# Altium schematic symbol library MyLibrary.SchLib: 32 symbols
Pins are listed as number, name and electrical type; pins without a type are passive.

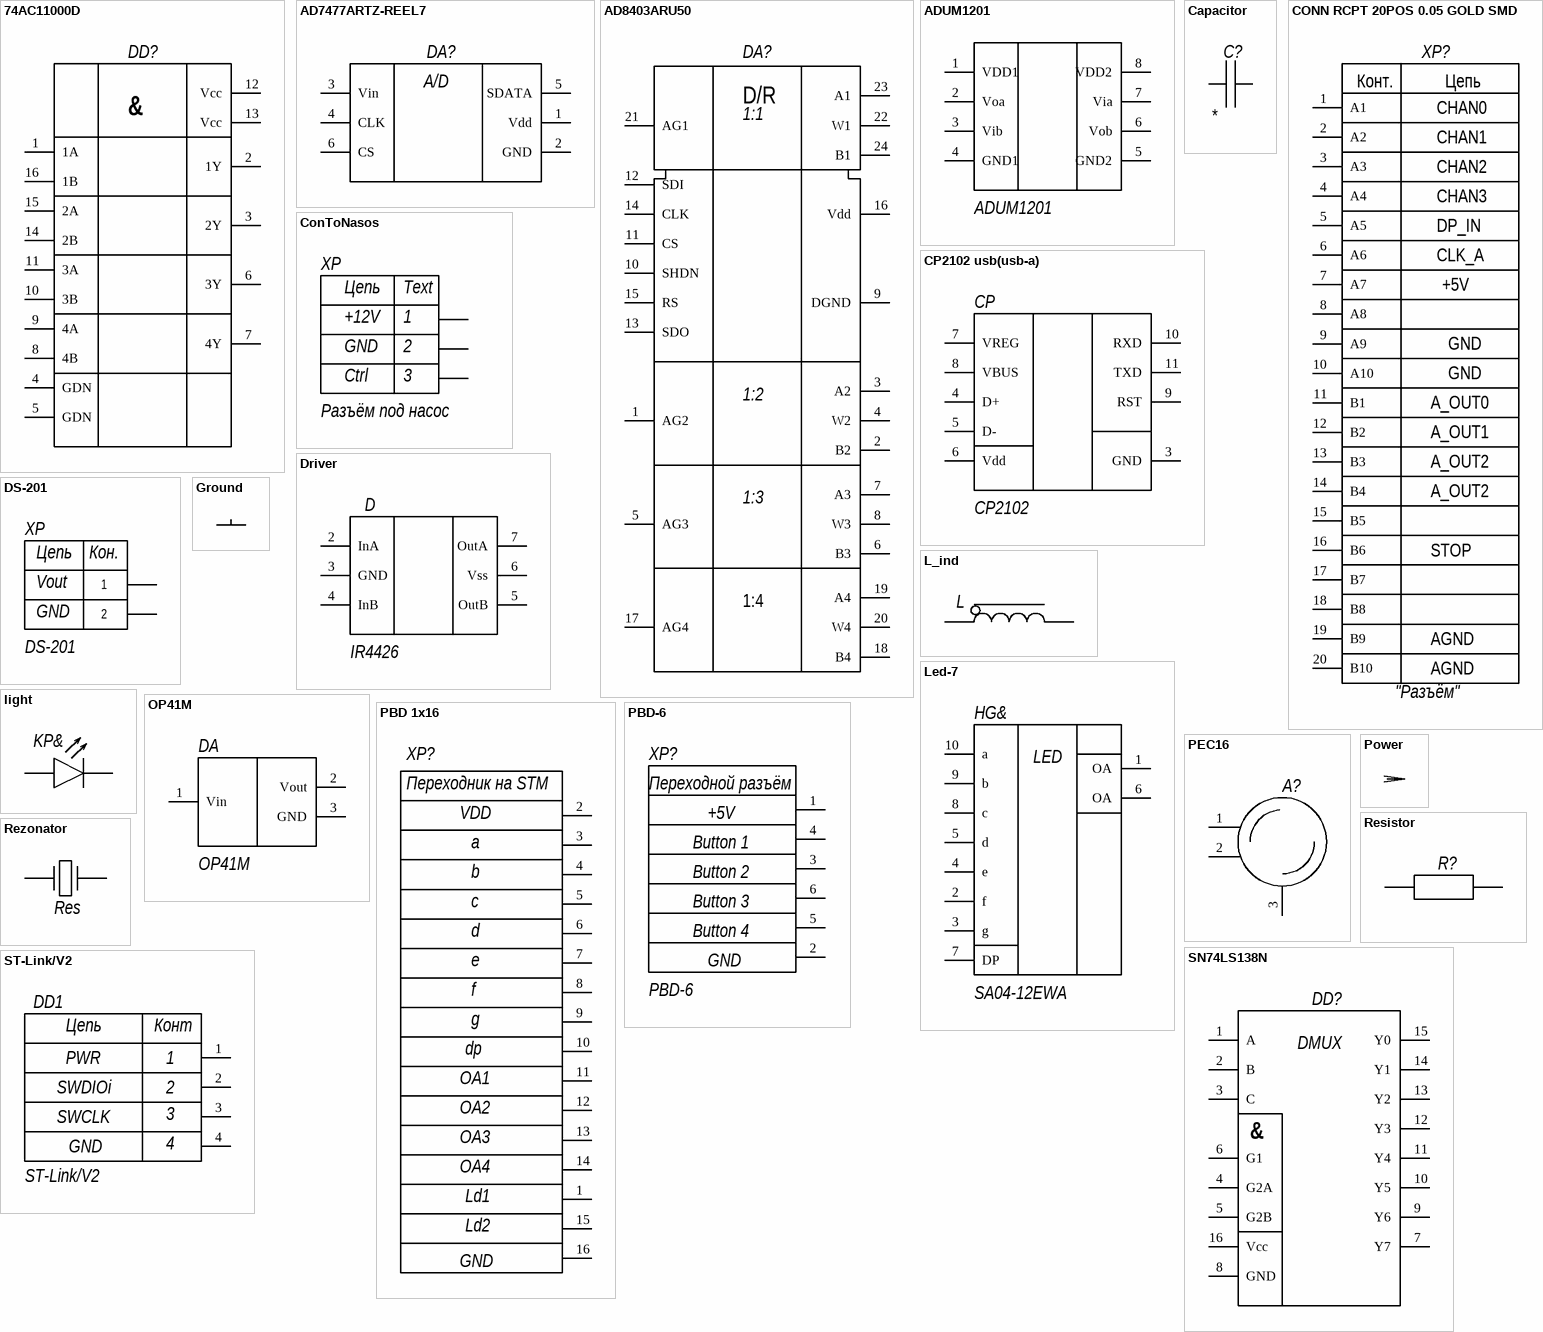
[diagram p0: symbols 74AC11000D to ST-Link/V2]

## 74AC11000D
designator DD?, comment &
DA; Manufacturer: Texas Instruments; Manufacturer Product Number: 74AC11000D; HelpURL: https://www.digikey.com/en/products/detail/texas-instruments/74AC11000D/1687601; Package / Case: 16-SOIC (0.154", 3.90mm Width)
footprint SOIC127P600X175-16N
pins: 1 1A (power), 2 1Y (power), 3 2Y (power), 4 GDN (power), 5 GDN (power), 6 3Y (power), 7 4Y (power), 8 4B (power), 9 4A (power), 10 3B (power), 11 3A (power), 12 Vcc (power), 13 Vcc (power), 14 2B (power), 15 2A (power), 16 1B (power)

## AD7477ARTZ-REEL7
designator DA?, comment A/D
Manufacturer: Analog Devices Inc.; Manufacturer Product Number: AD7477ARTZ-REEL7; Package / Case: SOT-23-6; HelpURL: https://www.digikey.com/en/products/detail/analog-devices-inc/AD7477ARTZ-REEL7/760431
footprint AD7477ART (SOT23, 6-Leads, Body 2,90x2,80mm, Pitch 0,95mm, IPC Medium Density)
pins: 1 Vdd (power), 2 GND (power), 3 Vin (power), 4 CLK (power), 5 SDATA (power), 6 CS (power)

## AD8403ARU50
designator DA?, comment D/R
DA; Manufacturer: Analog Devices Inc.; Manufacturer Product Number: AD8403ARU50; Resistance (Ohms): 50k; HelpURL: https://www.digikey.com/en/products/detail/analog-devices-inc/AD8403ARU50/11534416; Package / Case: 24-TSSOP (0.173", 4.40mm Width)
footprint AD8403ARU50 (TSOP, 24-Leads, Body 7,90x4,50mm, Pitch 0,65mm, IPC Medium Density)
pins: 1 AG2 (power), 2 B2 (power), 3 A2 (power), 4 W2 (power), 5 AG3 (power), 6 B3 (power), 7 A3 (power), 8 W3 (power), 9 DGND (power), 10 SHDN (power), 11 CS (power), 12 SDI (power), 13 SDO (power), 14 CLK (power), 15 RS (power), 16 Vdd (power), 17 AG4 (power), 18 B4 (power), 19 A4 (power), 20 W4 (power), 21 AG1 (power), 22 W1 (power), 23 A1 (power), 24 B1 (power)
text: 1:1; 1:2; 1:3; 1:4

## ADUM1201
designator Izol
pins: 1 VDD1 (power), 2 Voa (power), 3 Vib (power), 4 GND1 (power), 5 GND2 (power), 6 Vob (power), 7 Via (power), 8 VDD2 (power)

## Capacitor
designator C?
Value: *
footprint Cap 0805
pins: 1 (power), 2 (power)

## CONN RCPT 20POS 0.05 GOLD SMD
designator XP?, comment "Разъём"
87024-610TRLF; Manufacturer: Amphenol ICC (FCI); HelpURL: https://www.digikey.com/en/products/detail/amphenol-icc-fci/87024-610TRLF/1528603?s=N4IgTCBcDaIBwHYAMYAsBaAbARiQFQCUAZAMRAF0BfIA; Manufacturer Product Number: 87024-610TRLF
footprint CONN RCPT 20POS 0.05 GOLD SMD - duplicate
pins: 1 A1 (power), 2 A2 (power), 3 A3 (power), 4 A4 (power), 5 A5 (power), 6 A6 (power), 7 A7 (power), 8 A8 (power), 9 A9 (power), 10 A10 (power), 11 B1 (power), 12 B2 (power), 13 B3 (power), 14 B4 (power), 15 B5 (power), 16 B6 (power), 17 B7 (power), 18 B8 (power), 19 B9 (power), 20 B10 (power)
text: Конт.; Цепь; CHAN0; CHAN1; CHAN2; CHAN3; DP_IN; CLK_A; +5V; GND; A_OUT0; A_OUT1; A_OUT2; STOP; AGND

## ConToNasos
designator XP, comment Разъём под насос
pins: 5 (power), 6 (power), 7 (power)
text: Цепь; Text; +12V; 1; GND; 2; Ctrl; 3

## CP2102 usb(usb-a)
designator CP, comment CP2102
pins: 3 GND (power), 4 D+ (power), 5 D- (power), 6 Vdd (power), 7 VREG (power), 8 VBUS (power), 9 RST (power), 10 RXD (power), 11 TXD (power)

## Driver
designator D, comment IR4426
pins: 2 InA (power), 3 GND (power), 4 InB (power), 5 OutB (power), 6 Vss (power), 7 OutA (power)

## DS-201
designator XP
pins: 1 out (power), 2 GND (power)
text: Цепь; Кон.; Vout

## Ground
designator GND  (graphical)
pins: 1 (power)

## L_ind
designator L, comment ind  (value not drawn)
pins: 3 (power), 4 (power)

## Led-7
designator HG&, comment SA04-12EWA
footprint Led-7
pins: 1 OA (power), 2 f (power), 3 g (power), 4 e (power), 5 d (power), 6 OA (power), 7 DP (power), 8 c (power), 9 b (power), 10 a (power)
text: LED

## light
designator KP&  (value not drawn)
footprint KP LD RED
pins: 1 (power), 2 (power)

## OP41M
designator DA
pins: 1 Vin (power), 2 Vout (power), 3 GND (power)

## PBD 1x16
designator XP?  (value not drawn)
footprint PBD - 1x16
pins: 1, 2, 3, 4, 5, 6, 7, 8, 9, 10, 11, 12, 13, 14, 15, 16
text: Переходник на STM; VDD; a; b; c; d; e; f; g; dp; OA1; OA2; OA3; OA4; Ld1; Ld2; GND

## PBD-6
designator XP?
footprint PBD-6
pins: 1 (power), 2 (power), 3 (power), 4 (power), 5 (power), 6 (power)
text: Переходной разъём; +5V; Button 1; Button 2; Button 3; Button 4; GND

## PEC16
designator A?, comment Encoder  (value not drawn)
footprint PEC16 (Encoder)
pins: 1 A (power), 2 B (power), 3 C (power)

## Power
designator Power  (graphical)
pins: 1 (power)

## Resistor
designator R?
HelpURL: *; Manufacture: *
footprint Res 0805
pins: 1 (power), 2 (power)

## Rezonator
designator Res, comment HC-49SM  (value not drawn)
pins: 1 in (power), 2 out (power)

## SN74LS138N
designator DD?, comment DMUX
Manufacturer: Texas Instruments; Manufacturer Product Number: SN74LS138N; HelpURL: https://www.digikey.com/en/products/detail/texas-instruments/SN74LS138N/277285; Package / Case: 16-DIP (0.300", 7.62mm)
footprint DIP794W45P254L1969H508Q16
pins: 1 A (power), 2 B (power), 3 C (power), 4 G2A (power), 5 G2B (power), 6 G1 (power), 7 Y7 (power), 8 GND (power), 9 Y6 (power), 10 Y5 (power), 11 Y4 (power), 12 Y3 (power), 13 Y2 (power), 14 Y1 (power), 15 Y0 (power), 16 Vcc (power)
text: &

## ST-Link/V2
designator DD1
pins: 1 VCC +3.3V (power), 2 SWDIO/JTMS (power), 3 SWDCLK/JTCK (power), 4 GND (power)
text: Цепь; Конт; PWR; SWDIOi; SWCLK

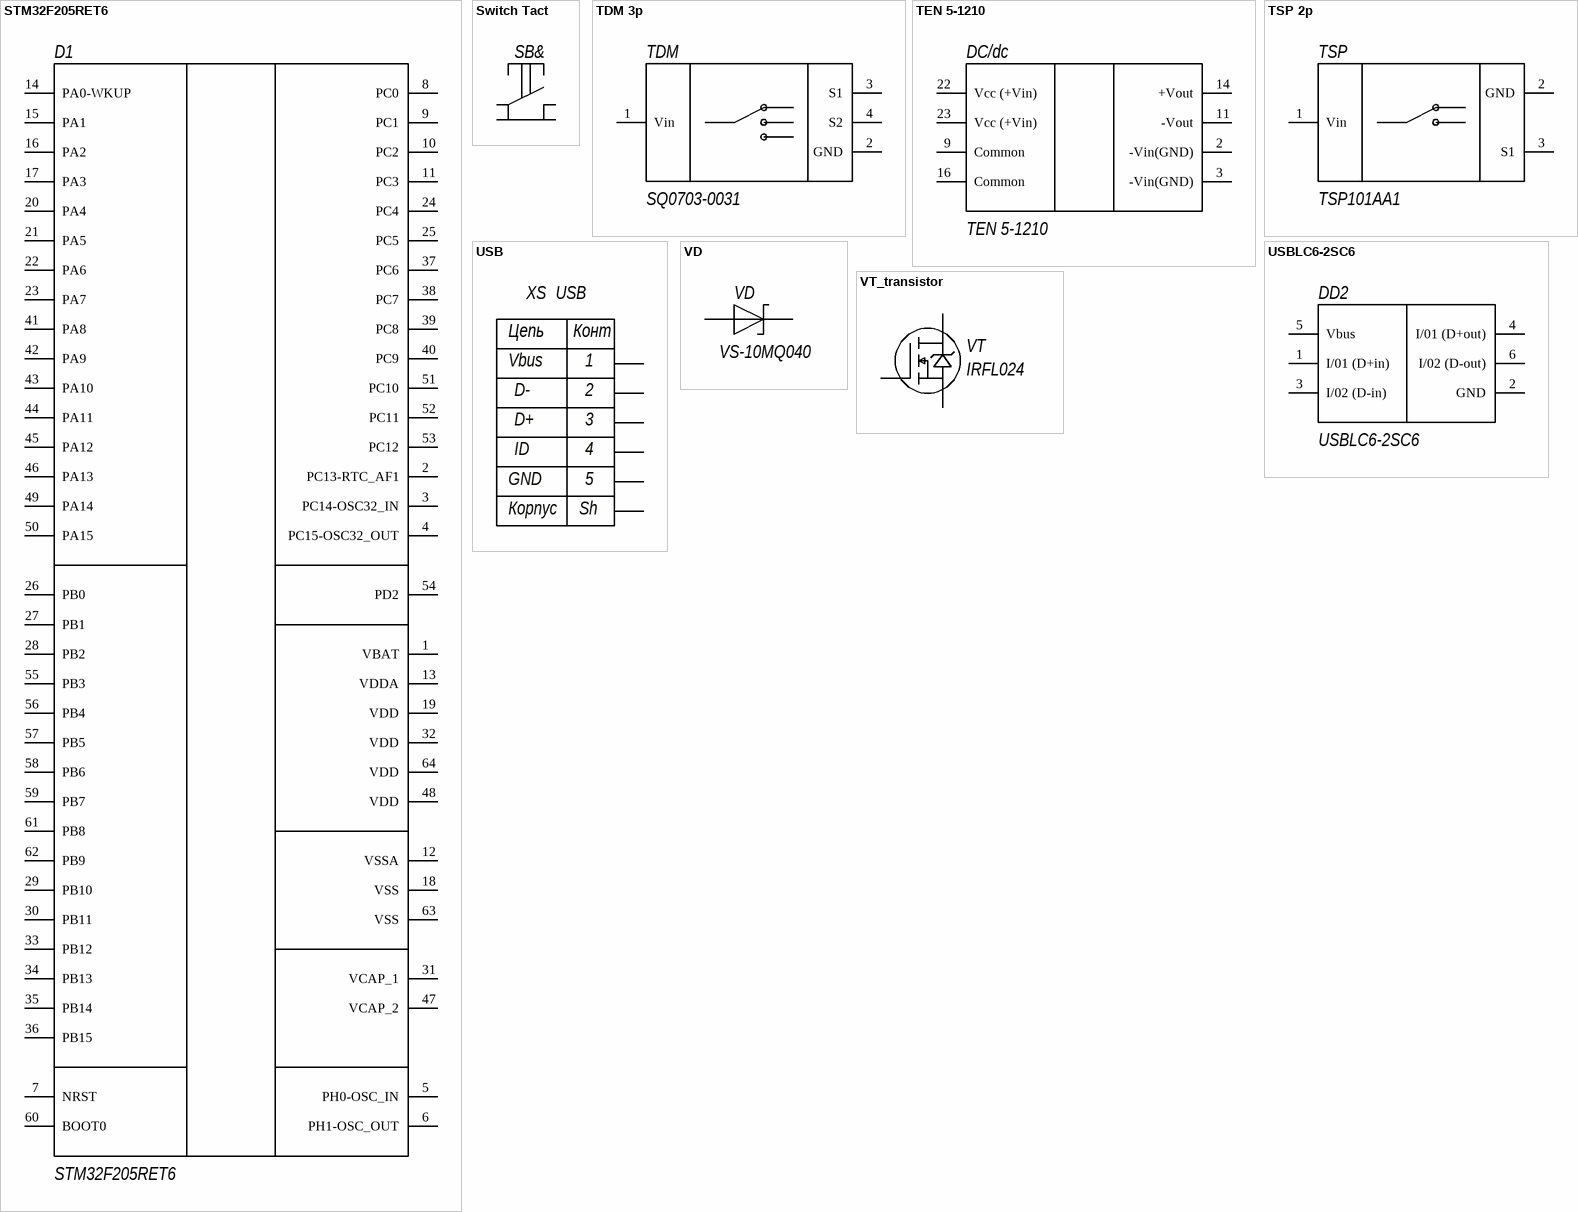
[diagram p1: symbols STM32F205RET6 to VT_transistor]

## STM32F205RET6
designator D1
pins: 1 VBAT (power), 2 PC13-RTC_AF1 (power), 3 PC14-OSC32_IN (power), 4 PC15-OSC32_OUT (power), 5 PH0-OSC_IN (power), 6 PH1-OSC_OUT (power), 7 NRST (power), 8 PC0 (power), 9 PC1 (power), 10 PC2 (power), 11 PC3 (power), 12 VSSA (power), 13 VDDA (power), 14 PA0-WKUP (power), 15 PA1 (power), 16 PA2 (power), 17 PA3 (power), 18 VSS (power), 19 VDD (power), 20 PA4 (power), 21 PA5 (power), 22 PA6 (power), 23 PA7 (power), 24 PC4 (power), 25 PC5 (power), 26 PB0 (power), 27 PB1 (power), 28 PB2 (power), 29 PB10 (power), 30 PB11 (power), 31 VCAP_1 (power), 32 VDD (power), 33 PB12 (power), 34 PB13 (power), 35 PB14 (power), 36 PB15 (power), 37 PC6 (power), 38 PC7 (power), 39 PC8 (power), 40 PC9 (power), 41 PA8 (power), 42 PA9 (power), 43 PA10 (power), 44 PA11 (power), 45 PA12 (power), 46 PA13 (power), 47 VCAP_2 (power), 48 VDD (power), 49 PA14 (power), 50 PA15 (power), 51 PC10 (power), 52 PC11 (power), 53 PC12 (power), 54 PD2 (power), 55 PB3 (power), 56 PB4 (power), 57 PB5 (power), 58 PB6 (power), 59 PB7 (power), 60 BOOT0 (power), 61 PB8 (power), 62 PB9 (power), 63 VSS (power), 64 VDD (power)

## Switch Tact
designator SB&, comment Switch  (value not drawn)
footprint Switch Tact
pins: 1 (power), 2 (power), 3 (power), 4 (power)

## TDM 3p
designator TDM, comment SQ0703-0031
pins: 1 Vin (power), 2 GND (power), 3 S1 (power), 4 S2 (power)

## TEN 5-1210
designator DC/dc
pins: 2 -Vin(GND) (power), 3 -Vin(GND) (power), 9 Common (power), 11 -Vout (power), 14 +Vout (power), 16 Common (power), 22 Vcc (+Vin) (power), 23 Vcc (+Vin) (power)

## TSP 2p
designator TSP, comment TSP101AA1
pins: 1 Vin (power), 2 GND (power), 3 S1 (power)

## USB
designator XS
pins: 1 (power), 2 (power), 3 (power), 4 (power), 5 (power), 6 (power)
text: Цепь; Конт; Vbus; D-; D+; ID; GND; Корпус; Sh

## USBLC6-2SC6
designator DD2
pins: 1 I/01 (D+in) (power), 2 GND (power), 3 I/02 (D-in) (power), 4 I/01 (D+out) (power), 5 Vbus (power), 6 I/02 (D-out) (power)

## VD
designator VD, comment VS-10MQ040
pins: 1 in (power), 2 out (power)

## VT_transistor
designator VT, comment IRFL024
pins: 1 (power), 2 (power), 3 (power)